# EAGLE library part EK-TM4C1294XL (library MyLibrary)
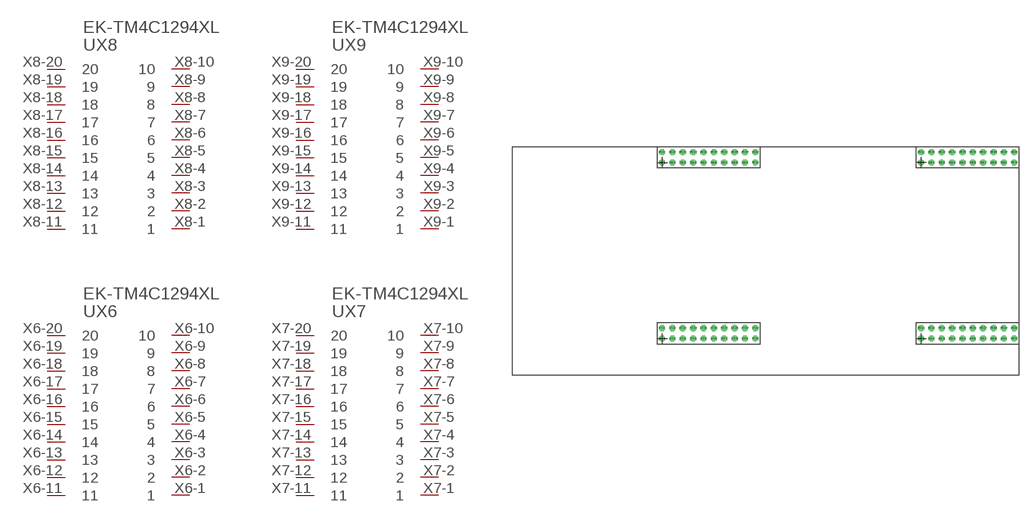
[diagram p20: symbol with the pads of EK-TM4C1294XL; footprint EK-TM4C1294XL]

Designator prefix -; gates X6=EK-TM4C1294XL X7=EK-TM4C1294XL X8=EK-TM4C1294XL X9=EK-TM4C1294XL

## EK-TM4C1294XL  [EK-TM4C1294XL]
X6-1  X6:1
X6-2  X6:2
X6-3  X6:3
X6-4  X6:4
X6-5  X6:5
X6-6  X6:6
X6-7  X6:7
X6-8  X6:8
X6-9  X6:9
X6-10  X6:10
X6-11  X6:11
X6-12  X6:12
X6-13  X6:13
X6-14  X6:14
X6-15  X6:15
X6-16  X6:16
X6-17  X6:17
X6-18  X6:18
X6-19  X6:19
X6-20  X6:20
X7-1  X7:1
X7-2  X7:2
X7-3  X7:3
X7-4  X7:4
X7-5  X7:5
X7-6  X7:6
X7-7  X7:7
X7-8  X7:8
X7-9  X7:9
X7-10  X7:10
X7-11  X7:11
X7-12  X7:12
X7-13  X7:13
X7-14  X7:14
X7-15  X7:15
X7-16  X7:16
X7-17  X7:17
X7-18  X7:18
X7-19  X7:19
X7-20  X7:20
X8-1  X8:1
X8-2  X8:2
X8-3  X8:3
X8-4  X8:4
X8-5  X8:5
X8-6  X8:6
X8-7  X8:7
X8-8  X8:8
X8-9  X8:9
X8-10  X8:10
X8-11  X8:11
X8-12  X8:12
X8-13  X8:13
X8-14  X8:14
X8-15  X8:15
X8-16  X8:16
X8-17  X8:17
X8-18  X8:18
X8-19  X8:19
X8-20  X8:20
X9-1  X9:1
X9-2  X9:2
X9-3  X9:3
X9-4  X9:4
X9-5  X9:5
X9-6  X9:6
X9-7  X9:7
X9-8  X9:8
X9-9  X9:9
X9-10  X9:10
X9-11  X9:11
X9-12  X9:12
X9-13  X9:13
X9-14  X9:14
X9-15  X9:15
X9-16  X9:16
X9-17  X9:17
X9-18  X9:18
X9-19  X9:19
X9-20  X9:20

## Footprint EK-TM4C1294XL (pad centres in mm)
drill 1.02 octagon: X6-1 36.83,52.07; X6-2 39.37,52.07; X6-3 41.91,52.07; X6-4 44.45,52.07; X6-5 46.99,52.07; X6-6 49.53,52.07; X6-7 52.07,52.07; X6-8 54.61,52.07; X6-9 57.15,52.07; X6-10 59.69,52.07; X6-11 36.83,54.61; X6-12 39.37,54.61; X6-13 41.91,54.61; X6-14 44.45,54.61; X6-15 46.99,54.61; X6-16 49.53,54.61; X6-17 52.07,54.61; X6-18 54.61,54.61; X6-19 57.15,54.61; X6-20 59.69,54.61; X7-1 36.83,8.89; X7-2 39.37,8.89; X7-3 41.91,8.89; X7-4 44.45,8.89; X7-5 46.99,8.89; X7-6 49.53,8.89; X7-7 52.07,8.89; X7-8 54.61,8.89; X7-9 57.15,8.89; X7-10 59.69,8.89; X7-11 36.83,11.43; X7-12 39.37,11.43; X7-13 41.91,11.43; X7-14 44.45,11.43; X7-15 46.99,11.43; X7-16 49.53,11.43; X7-17 52.07,11.43; X7-18 54.61,11.43; X7-19 57.15,11.43; X7-20 59.69,11.43; X8-1 100.33,52.07; X8-2 102.87,52.07; X8-3 105.41,52.07; X8-4 107.95,52.07; X8-5 110.49,52.07; X8-6 113.03,52.07; X8-7 115.57,52.07; X8-8 118.11,52.07; X8-9 120.65,52.07; X8-10 123.19,52.07; X8-11 100.33,54.61; X8-12 102.87,54.61; X8-13 105.41,54.61; X8-14 107.95,54.61; X8-15 110.49,54.61; X8-16 113.03,54.61; X8-17 115.57,54.61; X8-18 118.11,54.61; X8-19 120.65,54.61; X8-20 123.19,54.61; X9-1 100.33,8.89; X9-2 102.87,8.89; X9-3 105.41,8.89; X9-4 107.95,8.89; X9-5 110.49,8.89; X9-6 113.03,8.89; X9-7 115.57,8.89; X9-8 118.11,8.89; X9-9 120.65,8.89; X9-10 123.19,8.89; X9-11 100.33,11.43; X9-12 102.87,11.43; X9-13 105.41,11.43; X9-14 107.95,11.43; X9-15 110.49,11.43; X9-16 113.03,11.43; X9-17 115.57,11.43; X9-18 118.11,11.43; X9-19 120.65,11.43; X9-20 123.19,11.43